# Altium footprint library CN_B6B-XH-A.PcbLib: 1 footprints
Each footprint in its own frame and in the unit in brackets; x right, y up, seen from the top. Pads: shape width x height; smd on the part's side, far side on the other; paste and mask are expansions set on the pad; w line width, h text height; cw(c..) or ccw(c..) is an arc to the next point about the centre after c.
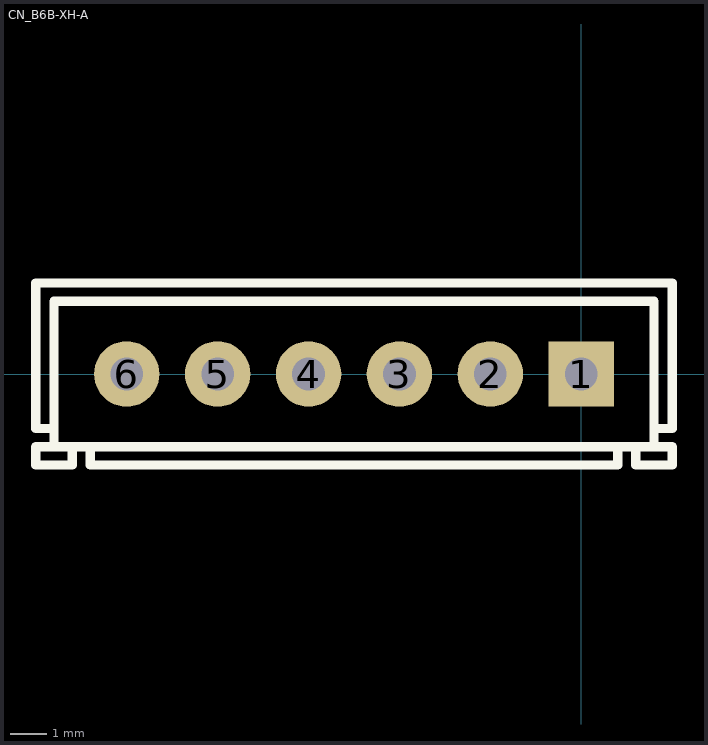
[diagram p0: the footprint, top view; thin cyan lines are the x and y axes]

## CN_B6B-XH-A [mm] "6p. PCB connector 180°"
pads (6):
  rect 1.8x1.8 hole 0.9: 1(0,0)
  round 1.8 hole 0.9: 2(-2.5,0) 3(-5,0) 4(-7.5,0) 5(-10,0) 6(-12.5,0)
Top Overlay:
  lines w0.254: -14.5,-2 -14.5,-1.5 ; -14.5,-2 -15,-2 -15,-2.5 -14,-2.5 -14,-2 -13.5,-2 -13.5,-2.5 1,-2.5 1,-2 1.5,-2 1.5,-2.5 2.5,-2.5 2.5,-2 2,-2 ; -14.5,-2 2,-2 ; -14.5,-1.5 -15,-1.5 -15,2.5 2.5,2.5 2.5,-1.5 2,-1.5 2,-2 ; -14.5,-1.5 -14.5,2 2,2 2,-2
3D body: height 7, standoff -3.3, extent -15,-2.3 2.5,3.4